# EAGLE library part CLIFF_OTJ-4/ORJ-4 (library cTechnologies_connectors)
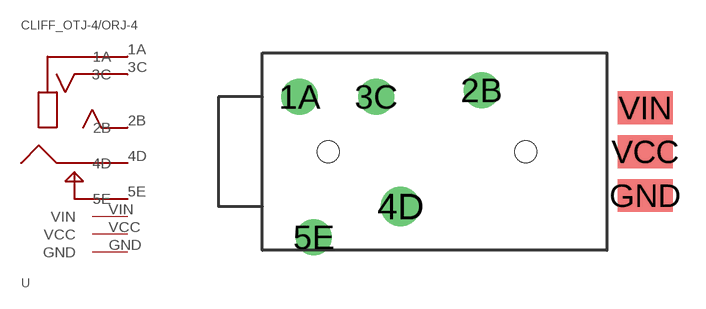
[diagram p6: symbol with the pads of OTJ-4/ORJ-4; footprint OTJ-4/ORJ-4]

Designator prefix -

## CLIFF_OTJ-4/ORJ-4  [OTJ-4/ORJ-4]
1A  1A
2B  2B
3C  3C
4D  4D
5E  5E
GND  GND
VCC  VCC
VIN  VIN

## Footprint OTJ-4/ORJ-4 (pad centres in mm)
drill 1.1: 1A -6.15,2.5; 2B 2.15,2.8; 3C -2.65,2.5; 5E -5.5,-3.9
drill 1.2: 4D -1.55,-2.5
smd 2.5 x 1.5: GND 9.6,-2; VCC 9.6,0; VIN 9.6,2
hole 1 at -4.85,0
hole 1 at 4.15,0